# Altium schematic symbol library Isolated DC-DC converters.SchLib: 2 symbols
Pins are listed as number, name and electrical type; pins without a type are passive.

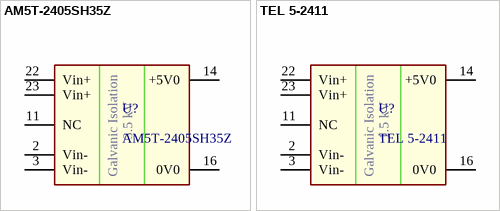
[diagram p0: symbols AM5T-2405SH35Z to TEL 5-2411]

## AM5T-2405SH35Z
designator U?
24V DC -> 5V DC Isolated converter; Vin_min: 18 V; Vin_max: 36 V; Iout_max: 1000 mA; Visol_DC: 3500 V; Efficiency: 80 %; Cload_max: 1000 uF; Tmin: -40 C; Tmax: +85 C; Ton_trans: 350 ms; Tstartup: 500 ms; Vripple: +-60 mV; Fswitch: 266 kHz; Case material: Nickel Coated Copper; Vout: 5 V
footprint AM5T-Z Single (AM5T-Z Single Series Isolated DC-DC converter)
pins: 2 Vin-, 3 Vin-, 11 NC, 14 +5V0, 16 0V0, 22 Vin+, 23 Vin+
text: 3.5 kV; Galvanic Isolation

## TEL 5-2411
designator U?
24V DC -> 5V DC Isolated converter; Vin_min: 18 V; Vin_max: 36 V; Iout_max: 1000 mA; Visol_DC: 3500 V; Efficiency: 80 %; Cload_max: 1000 uF; Tmin: -40 C; Tmax: +85 C; Ton_trans: 350 ms; Tstartup: 500 ms; Vripple: +-60 mV; Fswitch: 266 kHz; Case material: Nickel Coated Copper; Vout: 5 V
footprint TEL 5, SINGLE
pins: 2 Vin-, 3 Vin-, 11 NC, 14 +5V0, 16 0V0, 22 Vin+, 23 Vin+
text: 1.5 kV; Galvanic Isolation